# EAGLE library part PCA9955BTW (library FaBo-LED)
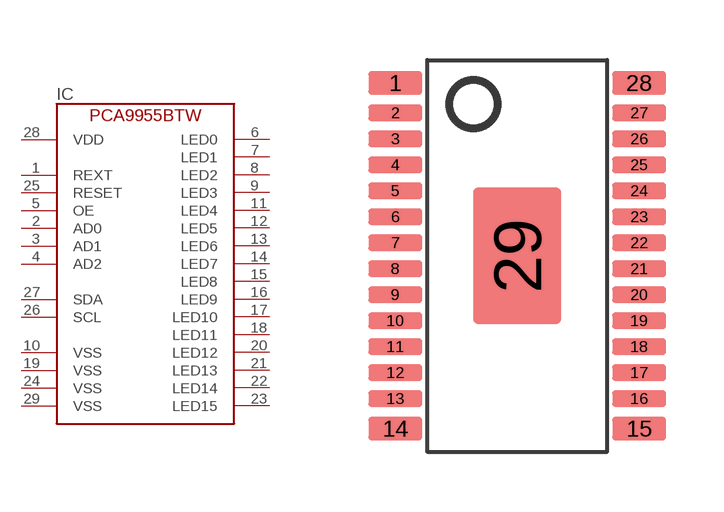
[diagram p4: symbol with the pads of HTSSOP28; footprint HTSSOP28]

Designator prefix IC

## PCA9955BTW  [HTSSOP28]
1  REXT
2  AD0
3  AD1
4  AD2
5  OE
6  LED0
7  LED1
8  LED2
9  LED3
10  VSS
11  LED4
12  LED5
13  LED6
14  LED7
15  LED8
16  LED9
17  LED10
18  LED11
19  VSS
20  LED12
21  LED13
22  LED14
23  LED15
24  VSS
25  RESET
26  SCL
27  SDA
28  VDD
29  VSS

## Footprint HTSSOP28 (pad centres in mm)
smd 1.35 x 0.6: 1 -3.05,4.325; 14 -3.05,-4.325; 15 3.05,-4.325; 28 3.05,4.325
smd 1.35 x 0.4: 2 -3.05,3.575; 3 -3.05,2.925; 4 -3.05,2.275; 5 -3.05,1.625; 6 -3.05,0.975; 7 -3.05,0.325; 8 -3.05,-0.325; 9 -3.05,-0.975; 10 -3.05,-1.625; 11 -3.05,-2.275; 12 -3.05,-2.925; 13 -3.05,-3.575; 16 3.05,-3.575; 17 3.05,-2.925; 18 3.05,-2.275; 19 3.05,-1.625; 20 3.05,-0.975; 21 3.05,-0.325; 22 3.05,0.325; 23 3.05,0.975; 24 3.05,1.625; 25 3.05,2.275; 26 3.05,2.925; 27 3.05,3.575
smd 2.2 x 3.4: 29 0,0